# EAGLE library part REG711-5 (library X893)
http://focus.ti.com/docs/prod/folders/print/reg711-5.html
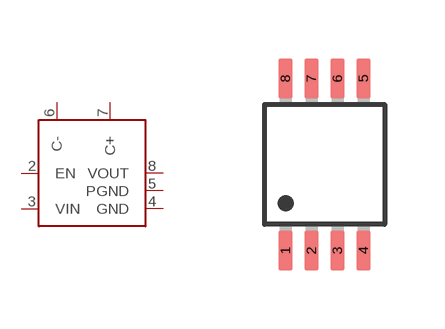
[diagram p118: symbol with the pads of MSOP8; footprint MSOP8]

Designator prefix U

## REG711-5  [MSOP8]
2  EN  pas
3  VIN  pas
4  GND  sup
5  PGND  sup
6  C-  pas
7  C+  pas
8  VOUT  pas

## Footprint MSOP8 (pad centres in mm)
smd 0.35 x 1: 1 -0.975,-2.15; 2 -0.325,-2.15; 3 0.325,-2.15; 4 0.975,-2.15; 5 0.975,2.15; 6 0.325,2.15; 7 -0.325,2.15; 8 -0.975,2.15